# Altium schematic symbol library ESP32+ATMEL.SchLib: 22 symbols
Pins are listed as number, name and electrical type; pins without a type are passive.

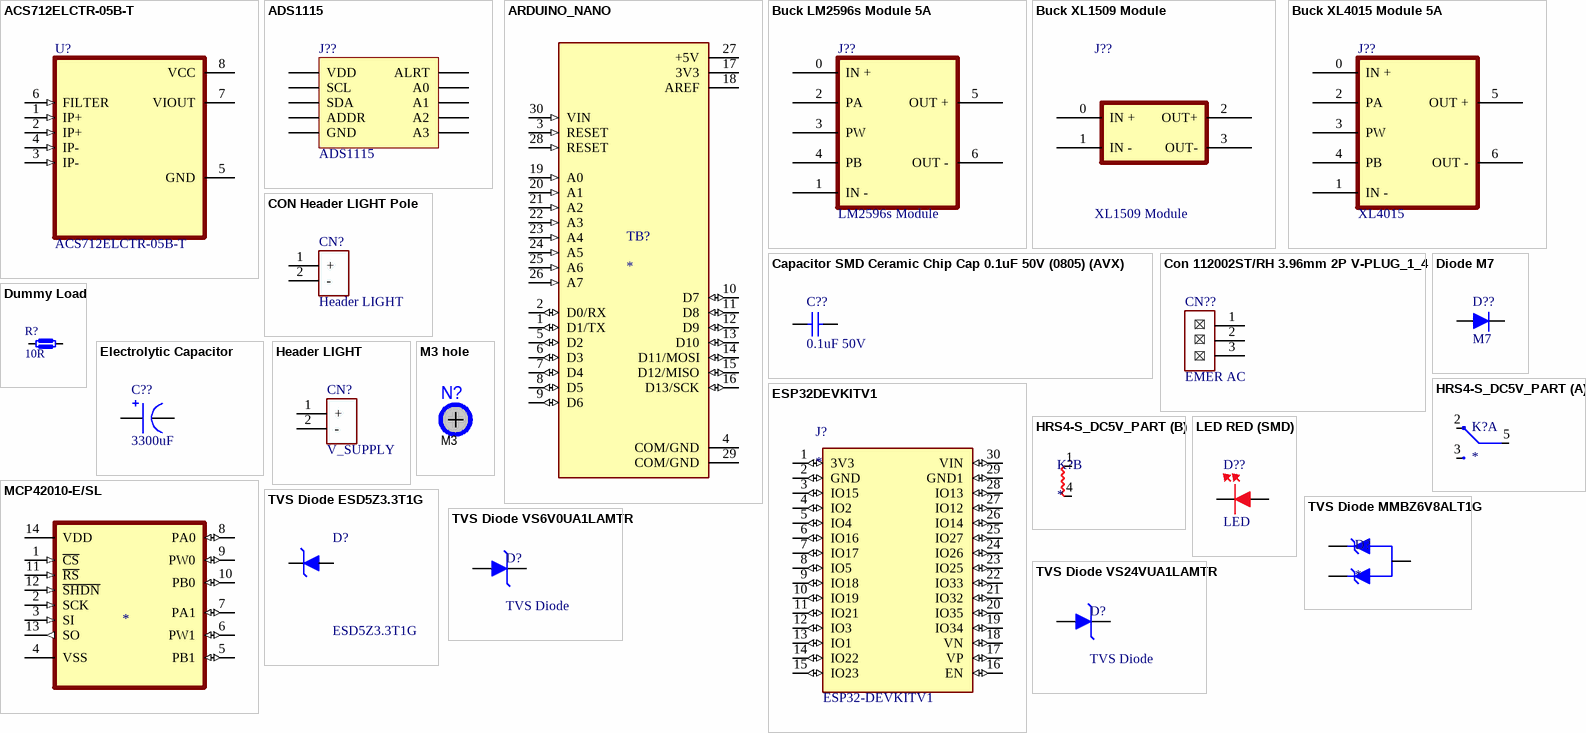
[diagram p0: symbols ACS712ELCTR-05B-T to TVS Diode VS24VUA1LAMTR]

## ACS712ELCTR-05B-T
designator U?
Current Sensor 5A 1 Channel Hall Effect, Open Loop Bidirectional 8-SOIC (0.154, 3.90mm Width); MF: Allegro MicroSystems LLC; SnapEDA_Link: https://www.snapeda.com/parts/ACS712ELCTR-05B-T/Allegro+MicroSystems+LLC/view-part/?ref=snap; Package: SOIC-8 Allegro MicroSystems LLC; MP: ACS712ELCTR-05B-T; Check_prices: https://www.snapeda.com/parts/ACS712ELCTR-05B-T/Allegro+MicroSystems+LLC/view-part/?ref=eda; Purchase-URL: https://pricing.snapeda.com/search/part/ACS712ELCTR-05B-T/?ref=eda; Price: None; Value: *; Availability: In Stock
footprint SOIC127P600X175-8N
pins: 1 IP+ (in), 2 IP+ (in), 3 IP- (in), 4 IP- (in), 5 GND (power), 6 FILTER (in), 7 VIOUT, 8 VCC (power)

## ADS1115
designator J??
ADC Sensor; LatestRevisionDate: 17-Jul-2002; LatestRevisionNote: Re-released for DXP Platform.; Publisher: Altium Limited
signal-integrity model Connector
footprint BNO080 (Header 1x10)
pins: 1 VDD, 2 GND, 3 SCL, 4 SDA, 5 ADDR, 6 ALRT, 7 A0, 8 A1, 9 A2, 10 A3

## ARDUINO_NANO
designator TB?
Small, complete, and breadboard-friendly board based on the ATmega328 (Arduino Nano 3.x); Check_prices: https://www.snapeda.com/parts/Arduino%20Nano/Arduino/view-part/?ref=eda; Value: *; Availability: Not in stock; MP: Arduino Nano; Price: None; Package: Non-Standard Arduino; SnapEDA_Link: https://www.snapeda.com/parts/Arduino%20Nano/Arduino/view-part/?ref=snap; MF: Arduino
footprint SHIELD_ARDUINO_NANO
pins: 1 D1/TX (io), 2 D0/RX (io), 3 RESET (in), 4 COM/GND (power), 5 D2 (io), 6 D3 (io), 7 D4 (io), 8 D5 (io), 9 D6 (io), 10 D7 (io), 11 D8 (io), 12 D9 (io), 13 D10 (io), 14 D11/MOSI (io), 15 D12/MISO (io), 16 D13/SCK (io), 17 3V3 (power), 18 AREF (power), 19 A0 (in), 20 A1 (in), 21 A2 (in), 22 A3 (in), 23 A4 (in), 24 A5 (in), 25 A6 (in), 26 A7 (in), 27 +5V (power), 28 RESET (in), 29 COM/GND (power), 30 VIN (in)

## Buck LM2596s Module 5A
designator J??, comment LM2596s Module
LM2596s Module step down converter
footprint LM2596s MODULE
pins: 0 IN +, 1 IN -, 2 PA, 3 PW, 4 PB, 5 OUT +, 6 OUT -

## Buck XL1509 Module
designator J??, comment XL1509 Module
XL1509 Module step down converter
footprint XL1509 MODULE
pins: 0 IN +, 1 IN -, 2 OUT+, 3 OUT-

## Buck XL4015 Module 5A
designator J??, comment XL4015
XL4015 Module step down converter
footprint XL4015 Module
pins: 0 IN +, 1 IN -, 2 PA, 3 PW, 4 PB, 5 OUT +, 6 OUT -

## Capacitor SMD Ceramic Chip Cap 0.1uF 50V (0805) (AVX)
designator C??, comment 0.1uF 50V
Capacitor SMD Ceramic Chip Cap 0.1uF 50V (0805) (AVX); RMPN: RMELCCAPSC001; Value: 0.1uF, 50V Ceramic; Created by: Zion Blue; Published: 28 April 2014; Publisher: Cynetik Group; RM DESC: Capacitor SMD Ceramic Chip Cap 0.1uF 50V (0805) (AVX); MPN: *; Manufacturer: *
footprint CAPC2012X135N (Chip Capacitor, Body 2.0x1.2mm, EIA 0805, IPC Medium Density)
pins: 1, 2

## Con 112002ST/RH 3.96mm 2P V-PLUG_1_4
designator CN??, comment EMER AC
Connector 3.9mm. 3PINS WAFER STRAIGHT PIN (MALE); RMPN: RMELCCNT006; MPN: 112002ST/RH; Manufacturer: GTK; RM DESC: Connector 3.9mm. 2PINS WAFER STRAIGHT PIN (MALE); ESPN: 0007-0932-2; M DESC: WAFER Connector 2 Pins,Pitch 3.96mm, Straight Type; ComponentLink1Description: ES LINK; ComponentLink1URL: https://www.es.co.th/detail.asp?Prod=000709322
footprint CON 3P 3.8mm
pins: 1, 2, 3

## CON Header LIGHT Pole
designator CN?, comment Header LIGHT
Connector 3.96MM 02 PIN WAFER STRAIGHTPIN (MALE)
footprint HEADER 2 PIN MOLEX POLE
pins: 1 +, 2 -

## Diode M7
designator D??, comment M7
M7 Rectifier Diode 1000V/1A . Package  DO-214AC (SMA); Published: 8-Jun-2000; LatestRevisionDate: 17-Jul-2002; LatestRevisionNote: Re-released for DXP Platform.; DatasheetVersion: 1998; PackageVersion: Aug-1999; PackageReference: DO-41; Publisher: Altium Limited; PackageDescription: Diode, Axial; Body 5.2 x 2.7 mm (LxDia. max), Lead Dia. 0.86 mm (max); Code_JEDEC: DO-204-AL; ComponentLink1Description: Manufacturer Link; ComponentLink1URL: http://www.fairchildsemi.com/; ComponentLink2Description: Datasheet; ComponentLink2URL: http://www.fairchildsemi.com/ds/1N%2F1N4001.pdf
footprint DO-214AC
pins: A, K

## Dummy Load
designator R?, comment 10R
10 OHM , 40 W . Made by Parallel of 2 Resistor 20 OHM 20 W
pins: 1, 2

## Electrolytic Capacitor
designator C??, comment 3300uF
3300 uF / 50 Vdc
footprint CAP3300
pins: N 1, P 0

## ESP32DEVKITV1
designator J?
Dual core, Wi-Fi: 2.4 GHz up to 150 Mbits/s,BLE (Bluetooth Low Energy) and legacy Bluetooth, 32 bits, Up to 240 MHz; MF: Do it; MP: ESP32 DEVKIT V1; Check_prices: https://www.snapeda.com/parts/ESP32%20DEVKIT%20V1/Do%20it/view-part/5659245/?ref=eda; Value: *; SnapEDA_Link: https://www.snapeda.com/parts/ESP32%20DEVKIT%20V1/Do%20it/view-part/5659245/?ref=snap; Package: Package; Availability: Unavailable; Price: None
footprint ESP32-DEVKITV1_3D
pins: 1 3V3 (io), 2 GND (io), 3 IO15 (io), 4 IO2 (io), 5 IO4 (io), 6 IO16 (io), 7 IO17 (io), 8 IO5 (io), 9 IO18 (io), 10 IO19 (io), 11 IO21 (io), 12 IO3 (io), 13 IO1 (io), 14 IO22 (io), 15 IO23 (io), 16 EN (io), 17 VP (io), 18 VN (io), 19 IO34 (io), 20 IO35 (io), 21 IO32 (io), 22 IO33 (io), 23 IO25 (io), 24 IO26 (io), 25 IO27 (io), 26 IO14 (io), 27 IO12 (io), 28 IO13 (io), 29 GND1 (io), 30 VIN (io)
text: ESP32-DEVKITV1

## Header LIGHT
designator CN?, comment V_SUPPLY
Connector 3.96MM 02 PIN WAFER STRAIGHTPIN (MALE)
footprint Header 2 pin molex
pins: 1 + (power), 2 - (power)

## HRS4-S_DC5V_PART
designator K?
Relay or Contactor; Manufacturer_Name: MULTICOMP; Manufacturer_Part_Number: HRS4-S DC5V; Datasheet Link: http://www.farnell.com/datasheets/1306711.pdf; Height: 16mm
footprint HRS4SDC5V
part A pins: 2 NC, 3 NO, 5 COM
part B pins: 1 COIL_1, 4 COIL_2

## LED RED (SMD)
designator D??, comment LED
LED SMD  mcd,Red Color Red Diffused Lens
footprint 0805 LED (Chip Resistor, Empaque 0805)
pins: 1 K, 2 A

## M3 hole
designator N?, comment M3
น็อต JT หัวร่ม สกรูมิลสี่แฉก M3x6; RMPN: RMRMANUTCJTZ011
footprint M3 hole

## MCP42010-E/SL
designator ?
Digital Potentiometer 10k Ohm 2 Circuit 256 Taps SPI Interface 14-SOIC; MF: Microchip; MP: MCP42010-E/SL; Value: *; Price: None; Package: SOIC-14 Microchip; SnapEDA_Link: https://www.snapeda.com/parts/MCP42010-E/SL/Microchip/view-part/386175/?ref=snap; Availability: Unavailable
footprint SOIC127P600X175-14N
pins: 1 ~{CS} (in), 2 SCK (in), 3 SI (in), 4 VSS (power), 5 PB1 (io), 6 PW1 (io), 7 PA1 (io), 8 PA0 (io), 9 PW0 (io), 10 PB0 (io), 11 ~{RS} (in), 12 ~{SHDN} (in), 13 SO (out), 14 VDD (power)

## TVS Diode ESD5Z3.3T1G
designator D?, comment ESD5Z3.3T1G
TVS Diode Uni-Direct. 240W 3.3V SOD-523 ON Semiconductor ESD5Z3.3T1G Uni-Directional TVS Diode, 200W peak, 2-Pin SOD-523; Manufacturer_Name: onsemi; Geometry.Height: 0.7mm; Manufacturer_Part_Number: ESD5Z3.3T1G; Mouser Part Number: 863-ESD5Z3.3T1G; Mouser Price/Stock: https://www.mouser.co.uk/ProductDetail/onsemi/ESD5Z3.3T1G?qs=OSf9jACorvaH3Y8oRWEcuQ%3D%3D; Arrow Part Number: ESD5Z3.3T1G; Arrow Price/Stock: https://www.arrow.com/en/products/esd5z3.3t1g/on-semiconductor?region=nac; Datasheet Link: http://www.onsemi.com/pub/Collateral/ESD5Z2.5T1-D.PDF
footprint SOD-523
pins: 1 K, 2 A

## TVS Diode MMBZ6V8ALT1G
designator D?
46V Clamp 870mA Ipp Tvs Diode Surface Mount SOT-23-3 (TO-236); MP: MMBZ6V8ALT1G; Package: None; Price: None; Value: *; Availability: Unavailable
footprint SOT95P237X111-3N
pins: 1 K1, 2 K2, 3 A

## TVS Diode VS6V0UA1LAMTR
designator D?, comment TVS Diode
TVS Diode VS6V0UA1LAMTR . Breakdown Voltage = 6.795V , Clamping Voltage 10.5 V , Working Reverse Standoff Voltage 5V; Published: 8-Jun-2000; LatestRevisionDate: 17-Jul-2002; LatestRevisionNote: Re-released for DXP Platform.; DatasheetVersion: 1998; PackageVersion: Aug-1999; PackageReference: DO-41; Publisher: Altium Limited; PackageDescription: Diode, Axial; Body 5.2 x 2.7 mm (LxDia. max), Lead Dia. 0.86 mm (max); Code_JEDEC: DO-204-AL; ComponentLink1Description: Manufacturer Link; ComponentLink1URL: http://www.fairchildsemi.com/; ComponentLink2Description: Datasheet; ComponentLink2URL: http://www.fairchildsemi.com/ds/1N%2F1N4001.pdf
footprint SOD-128
pins: 1 A, 2 K

## TVS Diode VS24VUA1LAMTR
designator D?, comment TVS Diode
TVS Diode VS24VUA1LAMTR . Breakdown Voltage = 28.1 V , Clamping Voltage 38.9 V , Working Reverse Standoff Voltage 24V; Published: 8-Jun-2000; LatestRevisionDate: 17-Jul-2002; LatestRevisionNote: Re-released for DXP Platform.; DatasheetVersion: 1998; PackageVersion: Aug-1999; PackageReference: DO-41; Publisher: Altium Limited; PackageDescription: Diode, Axial; Body 5.2 x 2.7 mm (LxDia. max), Lead Dia. 0.86 mm (max); Code_JEDEC: DO-204-AL; ComponentLink1Description: Manufacturer Link; ComponentLink1URL: http://www.fairchildsemi.com/; ComponentLink2Description: Datasheet; ComponentLink2URL: http://www.fairchildsemi.com/ds/1N%2F1N4001.pdf
footprint SOD-128
pins: 1 A, 2 K